# EAGLE library part PEL_STM32_STM32F410_8_B_LQFP64 (library stm32f410rb_pcm5100)
STM32F410_8_B_LQFP64.bsd edit this description Auto generated by make-symbol-device-package-bsdl.ulp Rev. 18 Source: STM32F410_8_B_LQFP64.bsd
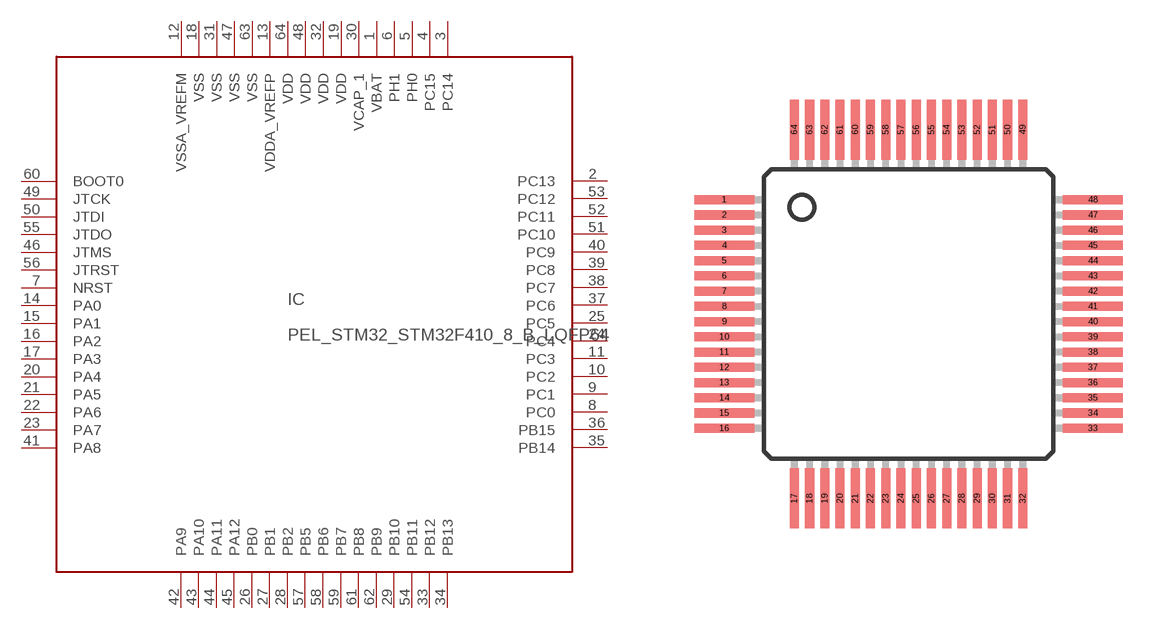
[diagram p1: symbol with the pads of PEL_STM32_LQFP64; footprint PEL_STM32_LQFP64]

Designator prefix IC

## PEL_STM32_STM32F410_8_B_LQFP64  [PEL_STM32_LQFP64]
1  VBAT  pas
2  PC13
3  PC14
4  PC15
5  PH0
6  PH1
7  NRST  in
8  PC0
9  PC1
10  PC2
11  PC3
12  VSSA_VREFM  pwr
13  VDDA_VREFP  pwr
14  PA0
15  PA1
16  PA2
17  PA3
18  VSS  pwr
19  VDD  pwr
20  PA4
21  PA5
22  PA6
23  PA7
24  PC4
25  PC5
26  PB0
27  PB1
28  PB2
29  PB10
30  VCAP_1  pas
31  VSS  pwr
32  VDD  pwr
33  PB12
34  PB13
35  PB14
36  PB15
37  PC6
38  PC7
39  PC8
40  PC9
41  PA8
42  PA9
43  PA10
44  PA11
45  PA12
46  JTMS  in
47  VSS  pwr
48  VDD  pwr
49  JTCK  in
50  JTDI  in
51  PC10
52  PC11
53  PC12
54  PB11
55  JTDO  out
56  JTRST  in
57  PB5
58  PB6
59  PB7
60  BOOT0  in
61  PB8
62  PB9
63  VSS  pwr
64  VDD  pwr

## Footprint PEL_STM32_LQFP64 (pad centres in mm)
Based on STM PCB landpattern recomendation
smd 1.962 x 0.3: 1 -6.05,3.75; 2 -6.05,3.25; 3 -6.05,2.75; 4 -6.05,2.25; 5 -6.05,1.75; 6 -6.05,1.25; 7 -6.05,0.75; 8 -6.05,0.25; 9 -6.05,-0.25; 10 -6.05,-0.75; 11 -6.05,-1.25; 12 -6.05,-1.75; 13 -6.05,-2.25; 14 -6.05,-2.75; 15 -6.05,-3.25; 16 -6.05,-3.75; 33 6.05,-3.75; 34 6.05,-3.25; 35 6.05,-2.75; 36 6.05,-2.25; 37 6.05,-1.75; 38 6.05,-1.25; 39 6.05,-0.75; 40 6.05,-0.25; 41 6.05,0.25; 42 6.05,0.75; 43 6.05,1.25; 44 6.05,1.75; 45 6.05,2.25; 46 6.05,2.75; 47 6.05,3.25; 48 6.05,3.75
smd 0.3 x 1.962: 17 -3.75,-6.05; 18 -3.25,-6.05; 19 -2.75,-6.05; 20 -2.25,-6.05; 21 -1.75,-6.05; 22 -1.25,-6.05; 23 -0.75,-6.05; 24 -0.25,-6.05; 25 0.25,-6.05; 26 0.75,-6.05; 27 1.25,-6.05; 28 1.75,-6.05; 29 2.25,-6.05; 30 2.75,-6.05; 31 3.25,-6.05; 32 3.75,-6.05; 49 3.75,6.05; 50 3.25,6.05; 51 2.75,6.05; 52 2.25,6.05; 53 1.75,6.05; 54 1.25,6.05; 55 0.75,6.05; 56 0.25,6.05; 57 -0.25,6.05; 58 -0.75,6.05; 59 -1.25,6.05; 60 -1.75,6.05; 61 -2.25,6.05; 62 -2.75,6.05; 63 -3.25,6.05; 64 -3.75,6.05